# EAGLE library part PIC32MZXXXXEC(G/H/M)064-I/PT (library PIC32_64PIN)
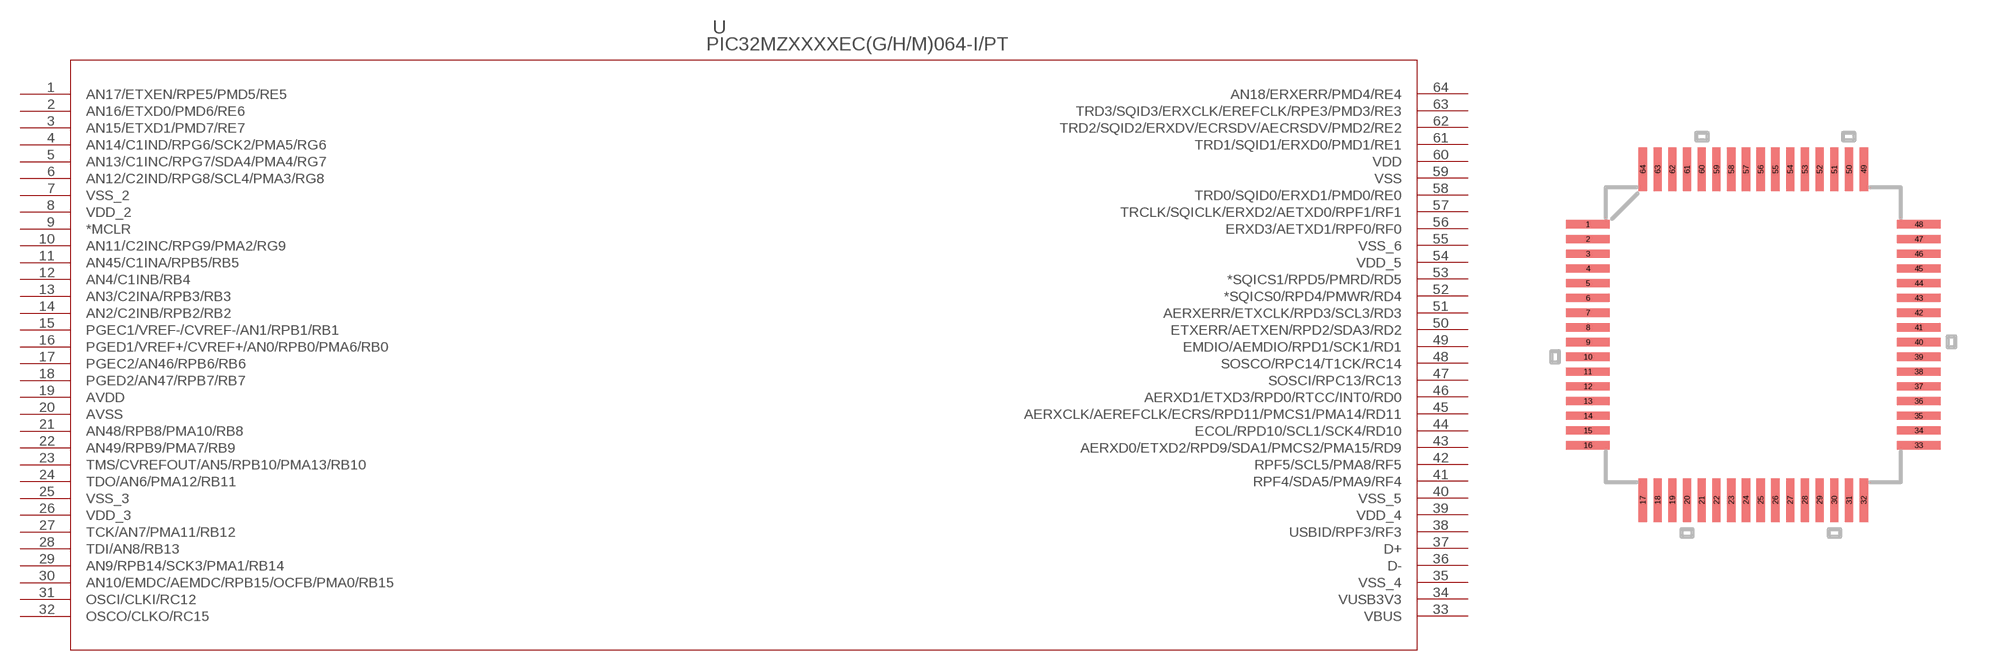
[diagram p0: symbol with the pads of TQFP64_10X10MC; footprint TQFP64_10X10MC]

Designator prefix U

## PIC32MZXXXXEC(G/H/M)064-I/PT (MANUFACTURER_PART_NUMBER: pic32mz1024ecg064-i/pt; VENDOR: Microchip)  [TQFP64_10X10MC]
1  AN17/ETXEN/RPE5/PMD5/RE5
2  AN16/ETXD0/PMD6/RE6
3  AN15/ETXD1/PMD7/RE7
4  AN14/C1IND/RPG6/SCK2/PMA5/RG6
5  AN13/C1INC/RPG7/SDA4/PMA4/RG7
6  AN12/C2IND/RPG8/SCL4/PMA3/RG8
7  VSS_2  pwr
8  VDD_2  pwr
9  *MCLR  pas
10  AN11/C2INC/RPG9/PMA2/RG9
11  AN45/C1INA/RPB5/RB5
12  AN4/C1INB/RB4
13  AN3/C2INA/RPB3/RB3
14  AN2/C2INB/RPB2/RB2
15  PGEC1/VREF-/CVREF-/AN1/RPB1/RB1
16  PGED1/VREF+/CVREF+/AN0/RPB0/PMA6/RB0
17  PGEC2/AN46/RPB6/RB6
18  PGED2/AN47/RPB7/RB7
19  AVDD  pwr
20  AVSS  pwr
21  AN48/RPB8/PMA10/RB8
22  AN49/RPB9/PMA7/RB9
23  TMS/CVREFOUT/AN5/RPB10/PMA13/RB10
24  TDO/AN6/PMA12/RB11
25  VSS_3  pwr
26  VDD_3  pwr
27  TCK/AN7/PMA11/RB12
28  TDI/AN8/RB13
29  AN9/RPB14/SCK3/PMA1/RB14
30  AN10/EMDC/AEMDC/RPB15/OCFB/PMA0/RB15
31  OSCI/CLKI/RC12
32  OSCO/CLKO/RC15
33  VBUS  pwr
34  VUSB3V3  pwr
35  VSS_4  pwr
36  D-  pas
37  D+  pas
38  USBID/RPF3/RF3
39  VDD_4  pwr
40  VSS_5  pwr
41  RPF4/SDA5/PMA9/RF4
42  RPF5/SCL5/PMA8/RF5
43  AERXD0/ETXD2/RPD9/SDA1/PMCS2/PMA15/RD9
44  ECOL/RPD10/SCL1/SCK4/RD10
45  AERXCLK/AEREFCLK/ECRS/RPD11/PMCS1/PMA14/RD11
46  AERXD1/ETXD3/RPD0/RTCC/INT0/RD0
47  SOSCI/RPC13/RC13
48  SOSCO/RPC14/T1CK/RC14
49  EMDIO/AEMDIO/RPD1/SCK1/RD1
50  ETXERR/AETXEN/RPD2/SDA3/RD2
51  AERXERR/ETXCLK/RPD3/SCL3/RD3
52  *SQICS0/RPD4/PMWR/RD4
53  *SQICS1/RPD5/PMRD/RD5
54  VDD_5  pwr
55  VSS_6  pwr
56  ERXD3/AETXD1/RPF0/RF0
57  TRCLK/SQICLK/ERXD2/AETXD0/RPF1/RF1
58  TRD0/SQID0/ERXD1/PMD0/RE0
59  VSS  pwr
60  VDD  pwr
61  TRD1/SQID1/ERXD0/PMD1/RE1
62  TRD2/SQID2/ERXDV/ECRSDV/AECRSDV/PMD2/RE2
63  TRD3/SQID3/ERXCLK/EREFCLK/RPE3/PMD3/RE3
64  AN18/ERXERR/PMD4/RE4

## Footprint TQFP64_10X10MC (pad centres in mm)
smd 1.473 x 0.279: 1 -5.613,3.75; 2 -5.613,3.25; 3 -5.613,2.75; 4 -5.613,2.25; 5 -5.613,1.75; 6 -5.613,1.25; 7 -5.613,0.75; 8 -5.613,0.25; 9 -5.613,-0.25; 10 -5.613,-0.75; 11 -5.613,-1.25; 12 -5.613,-1.75; 13 -5.613,-2.25; 14 -5.613,-2.75; 15 -5.613,-3.25; 16 -5.613,-3.75; 33 5.613,-3.75; 34 5.613,-3.25; 35 5.613,-2.75; 36 5.613,-2.25; 37 5.613,-1.75; 38 5.613,-1.25; 39 5.613,-0.75; 40 5.613,-0.25; 41 5.613,0.25; 42 5.613,0.75; 43 5.613,1.25; 44 5.613,1.75; 45 5.613,2.25; 46 5.613,2.75; 47 5.613,3.25; 48 5.613,3.75
smd 0.279 x 1.473: 17 -3.75,-5.613; 18 -3.25,-5.613; 19 -2.75,-5.613; 20 -2.25,-5.613; 21 -1.75,-5.613; 22 -1.25,-5.613; 23 -0.75,-5.613; 24 -0.25,-5.613; 25 0.25,-5.613; 26 0.75,-5.613; 27 1.25,-5.613; 28 1.75,-5.613; 29 2.25,-5.613; 30 2.75,-5.613; 31 3.25,-5.613; 32 3.75,-5.613; 49 3.75,5.613; 50 3.25,5.613; 51 2.75,5.613; 52 2.25,5.613; 53 1.75,5.613; 54 1.25,5.613; 55 0.75,5.613; 56 0.25,5.613; 57 -0.25,5.613; 58 -0.75,5.613; 59 -1.25,5.613; 60 -1.75,5.613; 61 -2.25,5.613; 62 -2.75,5.613; 63 -3.25,5.613; 64 -3.75,5.613